# EAGLE library part PNP4C3E (library zetex)
PNP TRANSISTOR
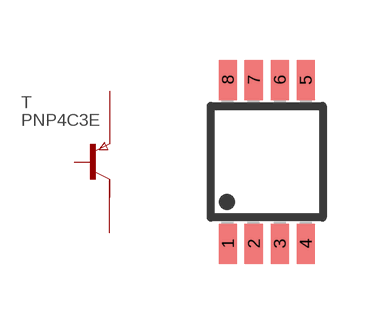
[diagram p19: symbol with the pads of MSOP8; footprint MSOP8]

Designator prefix T

## PNP4C3E  [MSOP8]
1  E  pas
2  E1  pas
3  E2  pas
4  B  pas
5  C  pas
6  C1  pas
7  C2  pas
8  C3  pas

## Footprint MSOP8 (pad centres in mm)
Micro Small Outline Package
smd 0.45 x 1: 1 -0.975,-2.05; 2 -0.325,-2.05; 3 0.325,-2.05; 4 0.975,-2.05; 5 0.975,2.05; 6 0.325,2.05; 7 -0.325,2.05; 8 -0.975,2.05